# EAGLE library part OPA192 (library PIEZO_LBR)
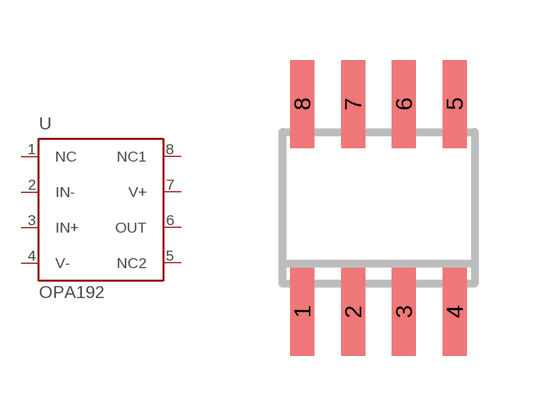
[diagram p3: symbol with the pads of SO-8; footprint SO-8]

Designator prefix -

## OPA192  [SO-8]
1  NC  pwr
2  IN-  in
3  IN+  in
4  V-  pwr
5  NC2  in
6  OUT  in
7  V+  oc
8  NC1  oc

## Footprint SO-8 (pad centres in mm)
smd 0.6 x 2.2: 1 -1.905,-2.6; 2 -0.635,-2.6; 3 0.635,-2.6; 4 1.905,-2.6; 5 1.905,2.6; 6 0.635,2.6; 7 -0.635,2.6; 8 -1.905,2.6